# EAGLE library part FT2232H (library be_usb_if)
drawn: Mario Blunk / Blunk electronic
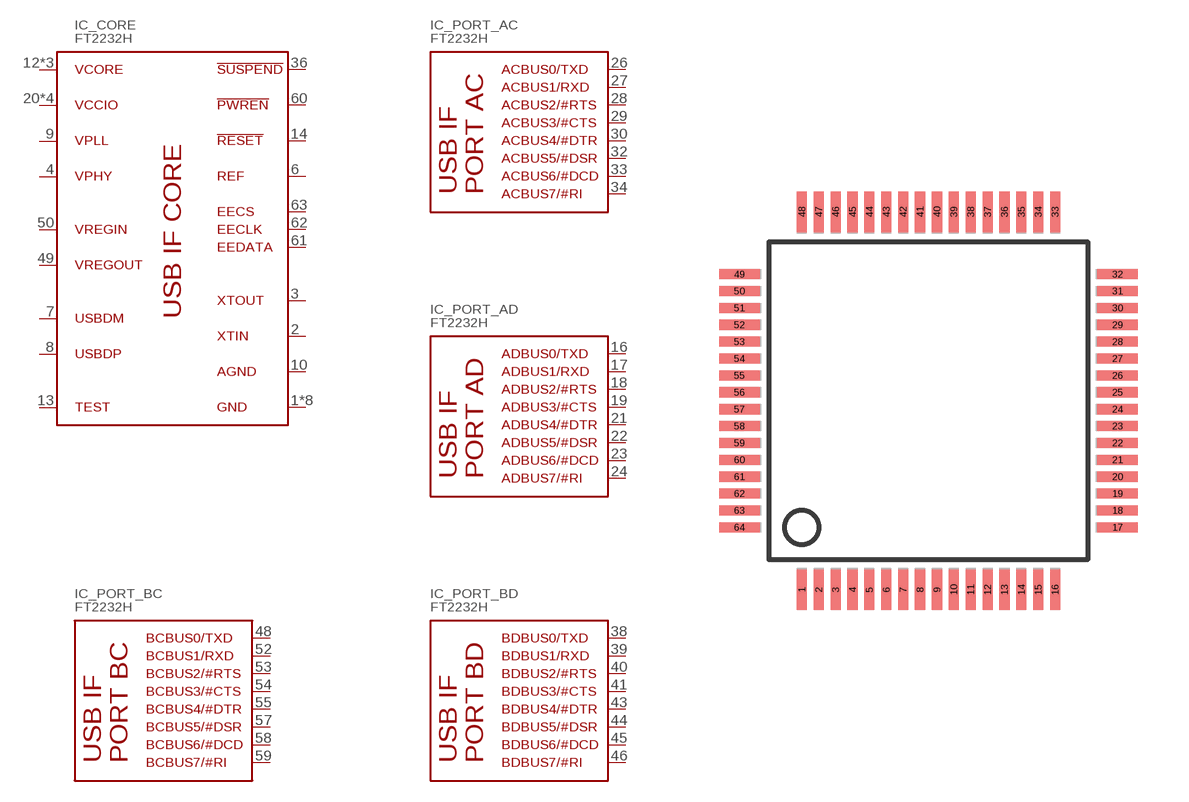
[diagram p0: symbol with the pads of S_LQFP64; footprint S_LQFP64]

Designator prefix IC; gates _CORE=FTDI_4232_CORE _PORT_AC=FTDI_4232_PORT_AC _PORT_AD=FTDI_4232_PORT_AD _PORT_BC=FTDI_4232_PORT_BC _PORT_BD=FTDI_4232_PORT_BD

## FT2232HL (BOM: YES; COMMISSIONED: 2013-08-30; PART_CODE_BEL: IC_PAC_S_LQFP64_VAL_FT2232HL)  [S_LQFP64]
1  _CORE:GND  pwr
2  _CORE:XTIN  in
3  _CORE:XTOUT  out
4  _CORE:VPHY  pwr
5  _CORE:GND  pwr
6  _CORE:REF  pas
7  _CORE:USBDM  in
8  _CORE:USBDP  in
9  _CORE:VPLL  pwr
10  _CORE:AGND  pwr
11  _CORE:GND  pwr
12  _CORE:VCORE  pwr
13  _CORE:TEST  in
14  _CORE:!RESET  in
15  _CORE:GND  pwr
16  _PORT_AD:ADBUS0/TXD
17  _PORT_AD:ADBUS1/RXD
18  _PORT_AD:ADBUS2/#RTS
19  _PORT_AD:ADBUS3/#CTS
20  _CORE:VCCIO  pwr
21  _PORT_AD:ADBUS4/#DTR
22  _PORT_AD:ADBUS5/#DSR
23  _PORT_AD:ADBUS6/#DCD
24  _PORT_AD:ADBUS7/#RI
25  _CORE:GND  pwr
26  _PORT_AC:ACBUS0/TXD
27  _PORT_AC:ACBUS1/RXD
28  _PORT_AC:ACBUS2/#RTS
29  _PORT_AC:ACBUS3/#CTS
30  _PORT_AC:ACBUS4/#DTR
31  _CORE:VCCIO  pwr
32  _PORT_AC:ACBUS5/#DSR
33  _PORT_AC:ACBUS6/#DCD
34  _PORT_AC:ACBUS7/#RI
35  _CORE:GND  pwr
36  _CORE:!SUSPEND  in
37  _CORE:VCORE  pwr
38  _PORT_BD:BDBUS0/TXD
39  _PORT_BD:BDBUS1/RXD
40  _PORT_BD:BDBUS2/#RTS
41  _PORT_BD:BDBUS3/#CTS
42  _CORE:VCCIO  pwr
43  _PORT_BD:BDBUS4/#DTR
44  _PORT_BD:BDBUS5/#DSR
45  _PORT_BD:BDBUS6/#DCD
46  _PORT_BD:BDBUS7/#RI
47  _CORE:GND  pwr
48  _PORT_BC:BCBUS0/TXD
49  _CORE:VREGOUT  pwr
50  _CORE:VREGIN  pwr
51  _CORE:GND  pwr
52  _PORT_BC:BCBUS1/RXD
53  _PORT_BC:BCBUS2/#RTS
54  _PORT_BC:BCBUS3/#CTS
55  _PORT_BC:BCBUS4/#DTR
56  _CORE:VCCIO  pwr
57  _PORT_BC:BCBUS5/#DSR
58  _PORT_BC:BCBUS6/#DCD
59  _PORT_BC:BCBUS7/#RI
60  _CORE:!PWREN  out
61  _CORE:EEDATA
62  _CORE:EECLK  out
63  _CORE:EECS
64  _CORE:VCORE  pwr

## Footprint S_LQFP64 (pad centres in mm)
LQFP64 shrink quad flat pack, square package edited: Mario Blunk / Blunk electronic date: 2013-03-21
smd 0.3 x 1.2: 1 -3.75,-5.6; 2 -3.25,-5.6; 3 -2.75,-5.6; 4 -2.25,-5.6; 5 -1.75,-5.6; 6 -1.25,-5.6; 7 -0.75,-5.6; 8 -0.25,-5.6; 9 0.25,-5.6; 10 0.75,-5.6; 11 1.25,-5.6; 12 1.75,-5.6; 13 2.25,-5.6; 14 2.75,-5.6; 15 3.25,-5.6; 16 3.75,-5.6; 33 3.75,5.6; 34 3.25,5.6; 35 2.75,5.6; 36 2.25,5.6; 37 1.75,5.6; 38 1.25,5.6; 39 0.75,5.6; 40 0.25,5.6; 41 -0.25,5.6; 42 -0.75,5.6; 43 -1.25,5.6; 44 -1.75,5.6; 45 -2.25,5.6; 46 -2.75,5.6; 47 -3.25,5.6; 48 -3.75,5.6
smd 1.2 x 0.3: 17 5.6,-3.75; 18 5.6,-3.25; 19 5.6,-2.75; 20 5.6,-2.25; 21 5.6,-1.75; 22 5.6,-1.25; 23 5.6,-0.75; 24 5.6,-0.25; 25 5.6,0.25; 26 5.6,0.75; 27 5.6,1.25; 28 5.6,1.75; 29 5.6,2.25; 30 5.6,2.75; 31 5.6,3.25; 32 5.6,3.75; 49 -5.6,3.75; 50 -5.6,3.25; 51 -5.6,2.75; 52 -5.6,2.25; 53 -5.6,1.75; 54 -5.6,1.25; 55 -5.6,0.75; 56 -5.6,0.25; 57 -5.6,-0.25; 58 -5.6,-0.75; 59 -5.6,-1.25; 60 -5.6,-1.75; 61 -5.6,-2.25; 62 -5.6,-2.75; 63 -5.6,-3.25; 64 -5.6,-3.75